# Altium schematic symbol library MAX16141A.SchLib: 1 symbol
Pins are listed as number, name and electrical type; pins without a type are passive.

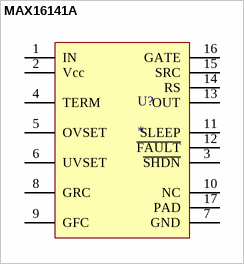
[diagram p0: symbol MAX16141A]

## MAX16141A
designator U?
pins: 1 IN, 2 Vcc, 3 ~{SHDN}, 4 TERM, 5 OVSET, 6 UVSET, 7 GND, 8 GRC, 9 GFC, 10 NC, 11 SLEEP, 12 ~{FAULT}, 13 OUT, 14 RS, 15 SRC, 16 GATE, 17 PAD